# Altium footprint library Transistors-FET.PcbLib: 12 footprints
Each footprint in its own frame and in the unit in brackets; x right, y up, seen from the top. Pads: shape width x height; smd on the part's side, far side on the other; paste and mask are expansions set on the pad; w line width, h text height; cw(c..) or ccw(c..) is an arc to the next point about the centre after c.
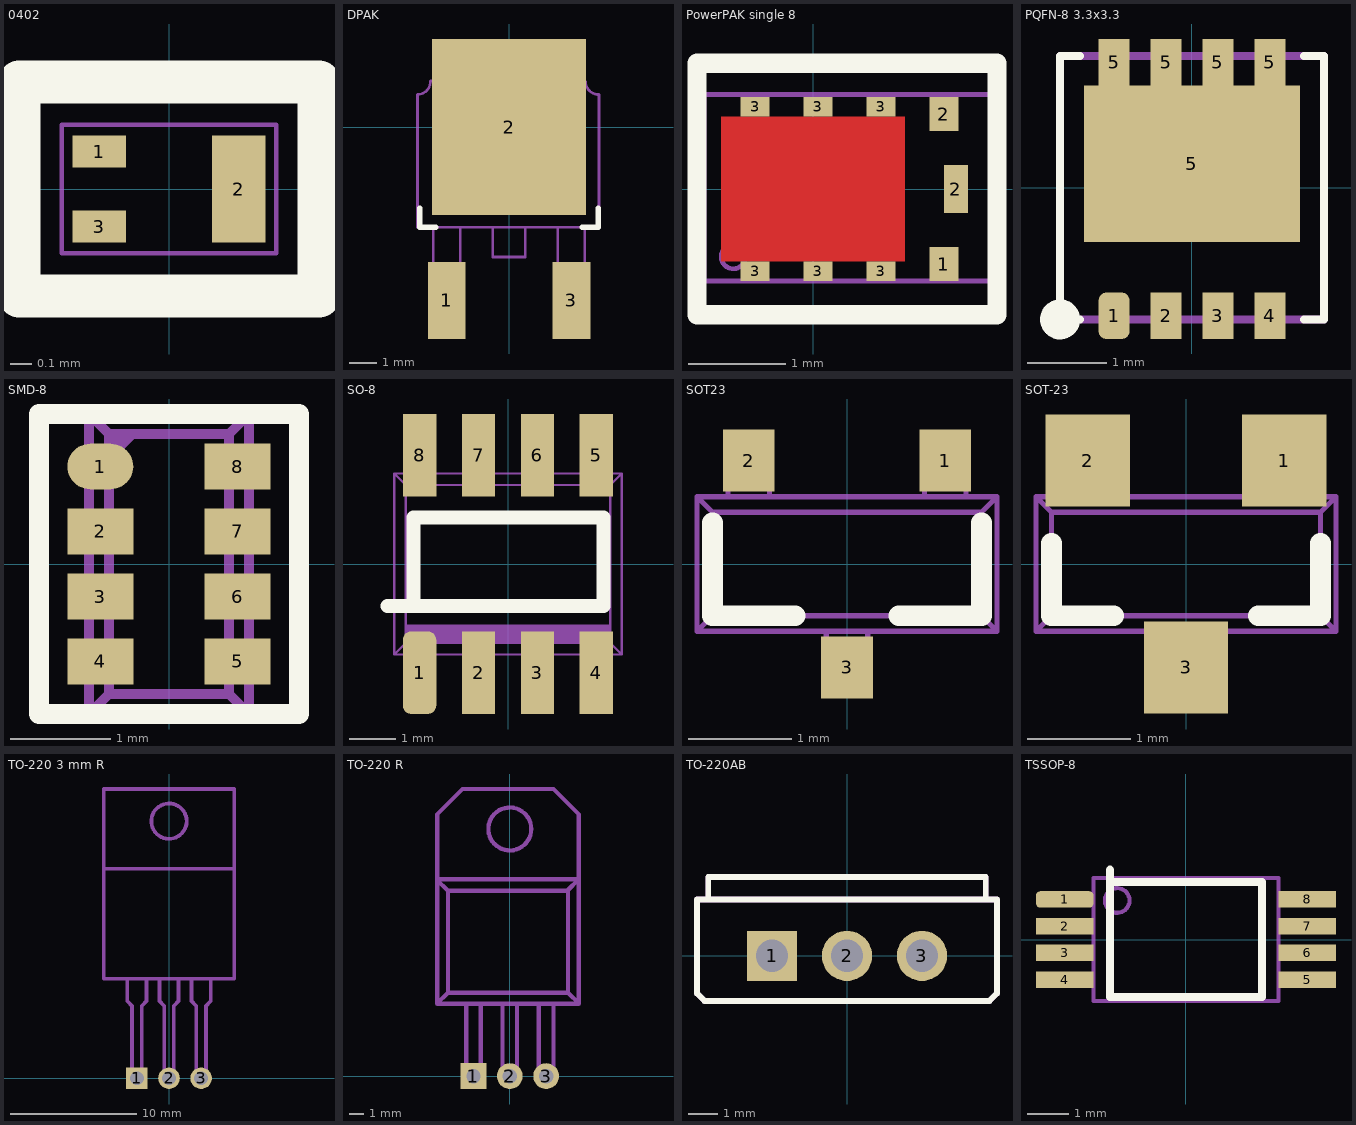
[diagram p0: the footprints below, top view; thin cyan lines are the x and y axes]

## 0402 [mm]
pads (3):
  rect 0.25x0.15 smd mask+0.06: 1(-0.325,0.175) 3(-0.325,-0.175)
  rect 0.25x0.5 smd mask+0.06: 2(0.325,0)
Top Overlay:
  lines w0.2: -0.7,-0.5 -0.7,0.5 0.7,0.5 0.7,-0.5 -0.7,-0.5
Mechanical 1:
  circle w0.02: c-0.35,0.175 r0.061
  lines w0.02: -0.5,-0.3 0.5,-0.3 0.5,0.3 -0.5,0.3 -0.5,-0.3
  text "'.Designator'" at -0.425,0.375 h0.2
  text "'.Comment'" at -0.4,-0.15 h0.2
3D body "0402.STEP": height 0.35, standoff -0.01, extent -0.5,-0.3 0.5,0.3

## DPAK [mm]
pads (3):
  rect 1.4x2.85 smd: 1(-2.3,-6.4) 3(2.3,-6.4)
  rect 5.7x6.5 smd: 2(0,0)
Top Overlay:
  lines w0.2: -3.3,-3 -3.3,-3.7 -2.7,-3.7 ; 2.7,-3.7 3.3,-3.7 3.3,-3
Mechanical 1:
  lines w0.1: -2.9,1.7 cw(c-3.388,1.688) -3.375,1.2 -3.375,-3.7 3.325,-3.7 3.325,1.2 cw(c3.313,1.688) 2.825,1.675 ; -2.875,1.7 2.7,1.7 ; -2.8,-3.7 -2.8,-7 -2,-7 -1.8,-7 -1.8,-3.7 ; -2.7,1.73 -2.7,2.325 -2.025,3 -0.975,3 -0.975,2.575 1.025,2.575 1.025,3 1.975,3 2.7,2.275 2.7,1.7 ; -0.6,-3.7 -0.6,-4.8 0.6,-4.8 0.6,-3.7 ; 1.8,-3.7 1.8,-7 2,-7 2.8,-7 2.8,-3.7 ; 2.8,1.7 2.7,1.7
  text ".Designator" at -3.048,3.556 h1.52
  text ".Comment" at -3.175,-3.175 h1.52
3D body "User Library-DPAK_TO-252AA.step": height 2.37, standoff -0.03, extent -3.367,-7.098 3.367,3.002

## PowerPAK single 8 [mm]
pads (9):
  rect 0.3x0.35 smd: 1(1.35,-0.775) 2(1.35,0.775)
  rect 0.25x0.5 smd: 2(1.475,0)
  rect 0.3x0.2 smd: 3(-0.6,-0.85) 3(-0.6,0.85) 3(0.05,-0.85) 3(0.05,0.85) 3(0.7,-0.85) 3(0.7,0.85)
Top Layer:
  rectangle: -0.95,-0.75 0.95,0.75
Top Overlay:
  lines w0.2: -1.2,-1.3 -1.2,1.3 1.9,1.3 1.9,-1.3 -1.2,-1.3
Top Solder:
  rectangle: -1,-0.8 1,0.8
Mechanical 1:
  circle w0.05: c-0.825,-0.7 r0.125
  lines w0.05: -1.125,-0.95 1.875,-0.95 1.875,0.975 -1.125,0.975 -1.125,-0.95
  text "'.Designator'" at -1,1.15 h0.5
  text "'.Comment'" at -0.875,-0.375 h0.5
3D body "PowerPAK single.STEP": height 0.75, standoff -0.01, extent -1.125,-0.96 1.875,0.96

## PQFN-8 3.3x3.3 [mm]
pads (9):
  rrect50% 0.39x0.58 smd: 1(-0.975,-1.605)
  rect 0.39x0.58 smd: 2(-0.325,-1.605) 3(0.325,-1.605) 4(0.975,-1.605) 5(-0.975,1.57) 5(-0.325,1.57) 5(0.325,1.57) 5(0.975,1.57)
  rect 2.7x1.96 smd paste-2: 5(0,0.3)
Top Overlay:
  circle w0.2: c-1.65,-1.65 r0.15
  lines w0.1: -1.4,-1.65 -1.65,-1.65 -1.65,1.65 -1.4,1.65 ; 1.4,-1.65 1.65,-1.65 1.65,1.65 1.4,1.65
Top Paste:
  rectangle: -1.32,0.8 -0.125,1.28
  rectangle: 0.125,0.8 1.32,1.28
  rectangle: -1.32,0.1 -0.125,0.58
  rectangle: 0.125,0.1 1.32,0.58
  rectangle: 0.125,-0.6 1.32,-0.12
  region: -0.12,-0.12 -1.315,-0.12 -1.315,-0.6 -0.12,-0.6
Mechanical 1:
  lines w0.1: -1.65,-1.65 1.65,-1.65 1.65,1.65 -1.65,1.65 -1.65,-1.65
  text "'.Comment'" at -1.5,-0.5 h0.8
  text "'.Designator'" at -1.5,2 h0.8
3D body "User Library-PQFN8.step": height 0.76, standoff -0.04, extent -1.65,-1.65 1.65,1.65

## SMD-8 [mm]
pads (8):
  oval 0.66x0.457 smd: 1(-0.686,0.975)
  rect 0.66x0.457 smd: 2(-0.686,0.325) 3(-0.686,-0.325) 4(-0.686,-0.975) 5(0.686,-0.975) 6(0.686,-0.325) 7(0.686,0.325) 8(0.686,0.975)
Top Overlay:
  lines w0.2: -1.3,-1.5 -1.3,1.5 1.3,1.5 1.3,-1.5 -1.3,-1.5
Mechanical 1:
  region: -0.6,1.3 -0.3,1.3 -0.6,1
  lines w0.1: -0.8,-1.5 -0.6,-1.3 ; -0.8,-1.5 -0.8,1.5 ; -0.8,-1.5 0.8,-1.5 ; -0.8,1.5 -0.6,1.3 ; -0.8,1.5 0.8,1.5 ; -0.6,-1.3 -0.6,1.3 ; -0.6,-1.3 0.6,-1.3 ; -0.6,1.3 0.6,1.3 ; 0.6,-1.3 0.8,-1.5 ; 0.6,-1.3 0.6,1.3 ; 0.6,1.3 0.8,1.5 ; 0.8,-1.5 0.8,1.5
  text "'.Comment'" at 0.2,-1.1 h1
  text "'.Designator'" at -0.8,1.8 h1
3D body "SMD-8.STEP": height 1.1, standoff 0, extent -0.95,-1.515 0.95,1.516

## SO-8 [mm]
pads (8):
  rrect50% 0.72x1.78 smd: 1(-1.905,-2.34)
  rect 0.72x1.78 smd: 2(-0.635,-2.34) 3(0.635,-2.34) 4(1.905,-2.34) 5(1.905,2.34) 6(0.635,2.34) 7(-0.635,2.34) 8(-1.905,2.34)
Top Overlay:
  lines w0.3: -2.591,-0.9 -2.032,-0.9 ; -2.032,-0.9 -2.032,1 2.057,1 2.057,-0.9 -2.032,-0.9
Mechanical 1:
  rectangle: -2.2,-1.7 2.2,-1.3
  lines w0.05: -2.075,-1.95 -2.075,-3 -1.725,-3 -1.725,-1.95 ; -2.075,1.975 -2.075,3.025 -1.725,3.025 -1.725,1.975 ; -2.025,-2.75 -1.775,-2.75 ; -2.025,2.75 -1.775,2.75 ; -0.8,1.95 -0.8,3 -0.45,3 -0.45,1.95 ; -0.775,-1.95 -0.775,-3 -0.425,-3 -0.425,-1.95 ; -0.75,2.75 -0.5,2.75 ; -0.725,-2.75 -0.475,-2.75 ; 0.45,1.95 0.45,3 0.8,3 0.8,1.95 ; 0.475,-1.95 0.475,-3 0.825,-3 0.825,-1.95 ; 0.5,2.75 0.75,2.75 ; 0.525,-2.75 0.775,-2.75 ; 1.75,-1.975 1.75,-3.025 2.1,-3.025 2.1,-1.975 ; 1.75,1.95 1.75,3 2.1,3 2.1,1.95 ; 1.8,-2.75 2.05,-2.75 ; 1.8,2.75 2.05,2.75 ; -2.45,-1.95 -2.2,-1.7 ; -2.45,-1.95 2.45,-1.95 ; -2.45,-1.95 -2.45,1.95 ; -2.45,1.95 -2.2,1.7 ; -2.45,1.95 2.45,1.95 ; -2.2,-1.7 2.2,-1.7 ; -2.2,-1.7 -2.2,1.7 ; -2.2,1.7 2.2,1.7 ; 2.2,-1.7 2.2,1.7 ; 2.2,-1.7 2.45,-1.95 ; 2.2,1.7 2.45,1.95 ; 2.45,-1.95 2.45,1.95
  text ".Designator" at -1.854,0.457 h0.6
  text ".Comment" at -1.829,-0.686 h0.6
3D body "SO-8.step": height 1.45, standoff 0, extent -2.438,-2.889 2.464,2.889

## SOT23 [mm]
pads (3):
  rect 0.5x0.6 smd: 1(0.95,1) 2(-0.95,1) 3(0,-1)
Top Overlay:
  lines w0.2: -1.3,0.4 -1.3,-0.5 -0.5,-0.5 ; 0.5,-0.5 1.3,-0.5 1.3,0.4
Mechanical 1:
  lines w0.05: -1.15,0.65 -1.15,1.2 -0.75,1.2 -0.75,0.65 ; -0.2,-0.65 -0.2,-1.2 0.2,-1.2 0.2,-0.65 ; 0.75,0.65 0.75,1.2 1.15,1.2 1.15,0.65 ; -1.45,-0.65 -1.3,-0.5 ; -1.45,-0.65 1.45,-0.65 ; -1.45,-0.65 -1.45,0.65 ; -1.45,0.65 -1.3,0.5 ; -1.45,0.65 1.45,0.65 ; -1.3,-0.5 -1.3,0.5 ; -1.3,-0.5 1.3,-0.5 ; -1.3,0.5 1.3,0.5 ; 1.3,-0.5 1.3,0.5 ; 1.3,-0.5 1.45,-0.65 ; 1.3,0.5 1.45,0.65 ; 1.45,-0.65 1.45,0.65
  text ".Designator" at -0.5,0.8 h0.51
  text ".Comment" at -1.2,-0.1 h0.51
3D body "SOT-23.step": height 1.06, standoff -0.04, extent -1.5,-1.25 1.5,1.25

## SOT-23 [mil]
pads (3):
  rect 32x35 smd: 1(37.4,39.37) 2(-37.4,39.37) 3(0,-39.37)
Top Overlay:
  lines w7.87: -51.18,7.87 -51.18,-19.68 -27.56,-19.68 ; 27.56,-19.68 51.18,-19.68 51.18,7.87
Mechanical 1:
  lines w1.97: -45.28,25.59 -45.28,47.24 -29.53,47.24 -29.53,25.59 ; -7.87,-25.59 -7.87,-47.24 7.87,-47.24 7.87,-25.59 ; 29.53,25.59 29.53,47.24 45.28,47.24 45.28,25.59 ; -57.09,-25.59 -57.09,25.59 ; -57.09,-25.59 57.09,-25.59 ; -57.09,-25.59 -51.18,-19.68 ; -57.09,25.59 57.09,25.59 ; -57.09,25.59 -51.18,19.68 ; -51.18,-19.68 51.18,-19.68 ; -51.18,-19.68 -51.18,19.68 ; -51.18,19.68 51.18,19.68 ; 51.18,-19.68 57.09,-25.59 ; 51.18,-19.68 51.18,19.68 ; 51.18,19.68 57.09,25.59 ; 57.09,-25.59 57.09,25.59
  text ".Designator" at -15.75,29.53 h19.68
  text ".Comment" at -46.26,-16.73 h19.68
3D body "SOT-23.step": height 41.34, standoff -1.97, extent -59.05,-49.21 59.06,49.22

## TO-220 3 mm R [mm]
pads (3):
  rect 1.7x1.7 hole 1.1: 1(-2.54,0)
  round 1.7 hole 1.1: 2(0,0) 3(2.54,0)
Mechanical 3:
  circle w0.3: c0,20.32 r1.397
  lines w0.3: -3.302,7.86 -3.302,6.096 -2.921,5.715 -2.921,0 -2.159,0 -2.159,5.715 -1.778,6.096 -1.778,7.86 ; -0.762,7.86 -0.762,6.096 -0.381,5.715 -0.381,0 0.381,0 0.381,5.715 0.762,6.096 0.762,7.86 ; 1.778,7.86 1.778,6.096 2.159,5.715 2.159,0 2.921,0 2.921,5.715 3.302,6.096 3.302,7.86 ; -5.15,16.56 -5.15,22.86 5.15,22.86 5.15,16.56 ; -5.15,16.56 5.15,16.56 ; -5.15,16.56 -5.15,7.86 5.15,7.86 5.15,16.56
  text ".Comment" at -4.445,8.89 h1
  text ".Designator" at -4.445,17.145 h1
3D body "TO-220 3mm.STEP": height 4.24, standoff -4, extent -5.08,-0.254 5.08,22.976

## TO-220 R [mm]
pads (3):
  rect 1.8x1.8 hole 1: 1(-2.54,0)
  round 1.8 hole 1: 2(0,0) 3(2.54,0)
Mechanical 3:
  circle w0.3: c0,17.272 r1.5
  lines w0.3: -5.08,13.716 -4.318,12.954 ; -3.048,5.066 -3.048,0.254 -2.794,0 -2.286,0 -2.032,0.254 -2.032,5.066 ; -0.508,5.066 -0.508,0.254 -0.254,0 0.254,0 0.508,0.254 0.508,5.066 ; 2.032,5.066 2.032,0.254 2.286,0 2.794,0 3.048,0.254 3.048,5.066 ; 4.064,13.004 4.064,5.828 ; -5.08,5.066 -5.08,13.766 ; -5.08,5.066 4.826,5.066 ; -5.08,5.066 -4.318,5.828 ; -5.08,13.766 4.826,13.766 ; -5.08,13.766 -5.08,18.288 -3.302,20.066 3.048,20.066 4.826,18.288 4.826,13.766 ; -4.318,5.828 -4.318,12.954 ; -4.318,5.828 4.064,5.828 ; -4.318,12.954 4.014,12.954 4.826,13.766 ; 4.064,5.828 4.826,5.066 ; 4.826,5.066 4.826,13.766
  text ".Comment" at -3.81,6.35 h1.52
  text ".Designator" at -3.81,14.478 h1.52
3D body "User Library-TO220-AB-H PCB.step": height 5.55, standoff -2.58, extent -4.95,-0.247 4.95,19.966

## TO-220AB [mm]
pads (3):
  rect 1.7x1.7 hole 1.1: 1(-2.54,0)
  round 1.7 hole 1.1: 2(0,0) 3(2.54,0)
Top Overlay:
  lines w0.2: 4.699,1.905 4.699,2.667 -4.699,2.667 -4.699,1.905 -5.08,1.905 ; -5.08,1.905 -5.08,-1.27 -4.826,-1.524 4.826,-1.524 5.08,-1.27 5.08,1.905 -5.08,1.905
Mechanical 3:
  lines w0.2: 4.699,1.905 4.699,2.667 -4.699,2.667 -4.699,1.905 -5.08,1.905 ; -5.08,1.905 5.08,1.905 5.08,-1.27 4.826,-1.524 -4.826,-1.524 -5.08,-1.27 -5.08,1.905
  text ".Designator" at -4.445,2.921 h1
  text ".Comment" at -4.445,1.143 h1
3D body "User Library-Transistors TO-220AB.step": height 19.37, standoff -13.52, extent -5.08,-1.524 5.08,2.671

## TSSOP-8 [mm]
height 1.2
pads (8):
  rrect50% 1.4x0.4 smd: 1(-2.95,0.975)
  rect 1.4x0.4 smd: 2(-2.95,0.325) 3(-2.95,-0.325) 4(-2.95,-0.975) 5(2.95,-0.975) 6(2.95,-0.325) 7(2.95,0.325) 8(2.95,0.975)
Top Overlay:
  lines w0.2: -1.85,1.5 -1.85,-1.4 1.85,-1.4 1.85,1.4 -1.85,1.4 -1.85,1.7
Mechanical 1:
  circle w0.1: c-1.675,0.95 r0.3
  lines w0.05: -2.762,-1.125 -2.762,-0.825 ; -2.762,-0.475 -2.762,-0.175 ; -2.762,0.175 -2.762,0.475 ; -2.762,0.825 -2.762,1.125 ; -2.25,-1.125 -3.275,-1.125 -3.275,-0.825 -2.25,-0.825 ; -2.25,-0.475 -3.275,-0.475 -3.275,-0.175 -2.25,-0.175 ; -2.25,0.175 -3.275,0.175 -3.275,0.475 -2.25,0.475 ; -2.25,0.825 -3.275,0.825 -3.275,1.125 -2.25,1.125 ; 2.25,-1.125 3.275,-1.125 3.275,-0.825 2.25,-0.825 ; 2.25,-0.475 3.275,-0.475 3.275,-0.175 2.25,-0.175 ; 2.25,0.175 3.275,0.175 3.275,0.475 2.25,0.475 ; 2.25,0.825 3.275,0.825 3.275,1.125 2.25,1.125 ; 2.763,-1.125 2.763,-0.825 ; 2.763,-0.475 2.763,-0.175 ; 2.763,0.175 2.763,0.475 ; 2.763,0.825 2.763,1.125
  lines w0.1: -2.25,-1.5 -2.25,1.5 2.25,1.5 2.25,-1.5 -2.25,-1.5
  text "'.Comment'" at -1.95,-0.9 h0.8
  text "'.Designator'" at -1.5,1.7 h0.8
3D body "TSSOP-8.step": height 1.2, standoff 0, extent -3.2,-1.5 3.2,1.5